# EAGLE library part PINHD-2X9/SMD (library vikc-pinhead)
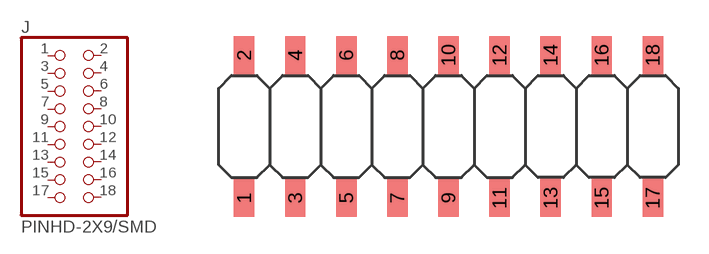
[diagram p47: symbol with the pads of 2X9/SMD; footprint 2X9/SMD]

Designator prefix J

## PINHD-2X9/SMD  [2X9/SMD]
1  1  pas
2  2  pas
3  3  pas
4  4  pas
5  5  pas
6  6  pas
7  7  pas
8  8  pas
9  9  pas
10  10  pas
11  11  pas
12  12  pas
13  13  pas
14  14  pas
15  15  pas
16  16  pas
17  17  pas
18  18  pas

## Footprint 2X9/SMD (pad centres in mm)
smd 1.016 x 1.905: 1 -10.16,-3.556; 2 -10.16,3.556; 3 -7.62,-3.556; 4 -7.62,3.556; 5 -5.08,-3.556; 6 -5.08,3.556; 7 -2.54,-3.556; 8 -2.54,3.556; 9 0,-3.556; 10 0,3.556; 11 2.54,-3.556; 12 2.54,3.556; 13 5.08,-3.556; 14 5.08,3.556; 15 7.62,-3.556; 16 7.62,3.556; 17 10.16,-3.556; 18 10.16,3.556